# EAGLE library part LT3960EMSE#TRPBF (library LT3960EMSE#TRPBF)
n Protected from Overvoltage Line Faults to +/-40V n Up to 400kbps I2C Communications n 4V to 60V Power Supply Range with Internal 3.3V Regulator n 3.3V or 5V Bus Voltage n Extended Common Mode Range (+/-36V) n Current Limited Drivers with Thermal Shutdown n Power-Up/Down Glitch Free Driver Outputs n Low Current Shutdown Mode n Transmit Data Dominant Timeout Function n E- and J-Grades Available n Available in a 10-Lead MSOP Package n AEC-Q100 Qualified for Automotive Applications Source: Datasheet <https://www.analog.com/LT3960/datasheet>
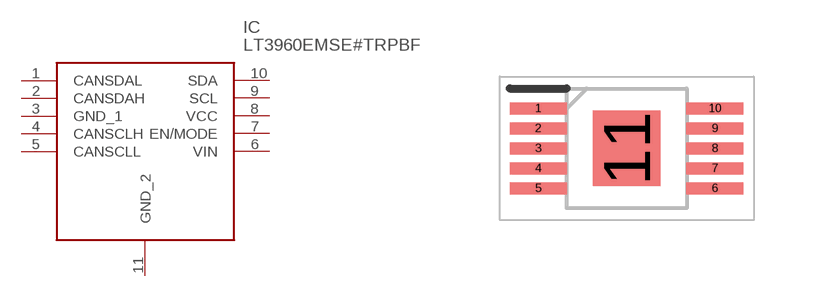
[diagram p0: symbol with the pads of SOP50P490X110-11N; footprint SOP50P490X110-11N]

Designator prefix IC

## LT3960EMSE#TRPBF (Description: n Protected from Overvoltage Line Faults to +/-40V n Up to 400kbps I2C Communications n 4V to 60V Power Supply Range with Internal 3.3V Regulator n 3.3V or 5V Bus Voltage n Extended Common Mode Range (+/-36V) n Current Limited Drivers with Thermal Shutdown n Power-Up/Down Glitch Free Driver Outputs n Low Current Shutdown Mode n Transmit Data Dominant Timeout Function n E- and J-Grades Available n Available in a 10-Lead MSOP Package n AEC-Q100 Qualified for Automotive Applications; Height: 1.1mm; Manufacturer_Name: Analog Devices; Manufacturer_Part_Number: LT3960EMSE#TRPBF; Mouser_Part_Number: 584-LT3960EMSE#TRPBF; Mouser_Price-Stock: https://www.mouser.co.uk/ProductDetail/Analog-Devices/LT3960EMSETRPBF?qs=T94vaHKWudSYrMnOgEOV%252BA%3D%3D)  [SOP50P490X110-11N]
1  CANSDAL
2  CANSDAH
3  GND_1
4  CANSCLH
5  CANSCLL
6  VIN
7  EN/MODE
8  VCC
9  SCL
10  SDA
11  GND_2

## Footprint SOP50P490X110-11N (pad centres in mm)
10-Lead (3mm × 3mm) Plastic MSOP
smd 1.425 x 0.3: 1 -2.212,1; 2 -2.212,0.5; 3 -2.212,0; 4 -2.212,-0.5; 5 -2.212,-1; 6 2.212,-1; 7 2.212,-0.5; 8 2.212,0; 9 2.212,0.5; 10 2.212,1
smd 1.68 x 1.88: 11 0,0